# EAGLE library part 2X-MOLEX-87340-0624 (library Parts for D-DAQ)
Pair of MOLEX-87340-0624 female receptacles 2mm X 2mm female pin headers
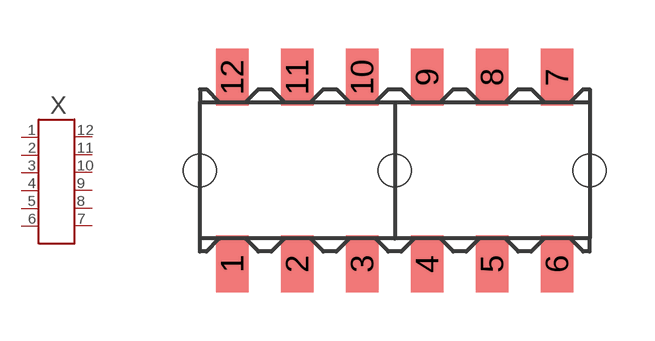
[diagram p15: symbol with the pads of 2X-MOLEX-87340-0624; footprint 2X-MOLEX-87340-0624]

Designator prefix X

## 2X-MOLEX-87340-0624  [2X-MOLEX-87340-0624]
1  P$1  pas
2  P$2  pas
3  P$3  pas
4  P$4  pas
5  P$5  pas
6  P$6  pas
7  P$7  pas
8  P$8  pas
9  P$9  pas
10  P$10  pas
11  P$11  pas
12  P$12  pas

## Footprint 2X-MOLEX-87340-0624 (pad centres in mm)
smd 1 x 1.75: 1 -5,-2.875; 2 -3,-2.875; 3 -1,-2.875; 4 1,-2.875; 5 3,-2.875; 6 5,-2.875; 7 5,2.875; 8 3,2.875; 9 1,2.875; 10 -1,2.875; 11 -3,2.875; 12 -5,2.875
hole 1 at 0,0
hole 1 at -6,0
hole 1 at 6,0